# Altium schematic symbol library P-MOSFET.SchLib: 2 symbols
Pins are listed as number, name and electrical type; pins without a type are passive.

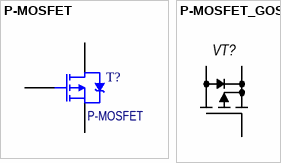
[diagram p0: symbols P-MOSFET to P-MOSFET_GOST]

## P-MOSFET
designator T?
P channel Generic MosFET; Потребление, Вт: 0,0; Назначение: P channel Generic MosFET; Наименование: P-MOSFET
footprint SO-8 Transistor; pin to pad D>3 G>1 S>2
pins: D DRAIN, G GATE, S SOURCE

## P-MOSFET_GOST
designator VT?, comment P-MOSFET  (value not drawn)
P channel Generic MosFET; Manufacturer: Fairchild semiconductor; Part: BSS123; Package: SOT-23
footprint SOT-23_v2
footprint MLP 3.3 * 3.3
pins: 1 G, 2 S, 3 D